# Altium footprint library Library.PcbLib: 5 footprints
Each footprint in its own frame and in the unit in brackets; x right, y up, seen from the top. Pads: shape width x height; smd on the part's side, far side on the other; paste and mask are expansions set on the pad; w line width, h text height; cw(c..) or ccw(c..) is an arc to the next point about the centre after c.
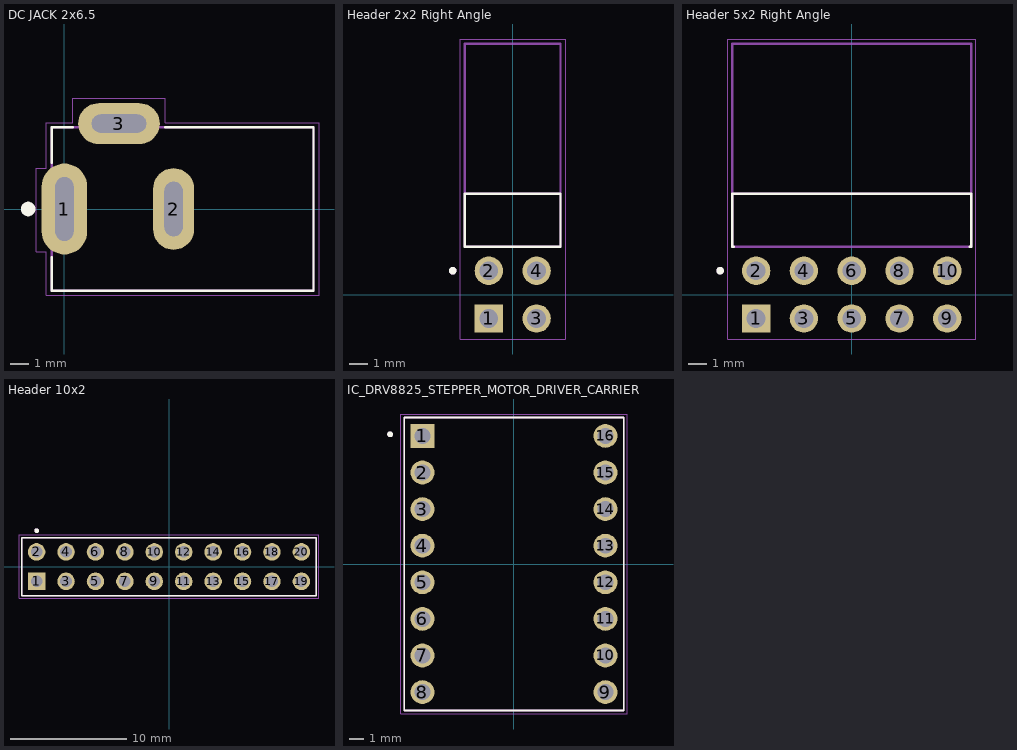
[diagram p0: the footprints below, top view; thin cyan lines are the x and y axes]

## DC JACK 2x6.5 [mm]
pads (3):
  oval 2.5x5 hole 1 slot 3.5 at 90 deg: 1(0,0)
  oval 2.25x4.5 hole 1 slot 3 at 90 deg: 2(6,0)
  oval 4.5x2.25 hole 1 slot 3 at 0 deg: 3(3,4.7)
Top Overlay:
  circle w0.4: c-2,0 r0.2
  lines w0.127: -0.7,-2.65 -0.7,-4.5 13.7,-4.5 13.7,4.5 5.55,4.5 ; -0.7,2.55 -0.7,4.5 0.45,4.5
3D Top:
  lines w0.127: -0.7,-4.5 -0.7,4.5 13.7,4.5 13.7,-4.5 -0.7,-4.5
Courtyard Top:
  lines w0.05: -1.55,-2.35 -1,-2.35 -1,-4.75 14,-4.75 14,4.75 5.55,4.75 5.55,6.1 0.45,6.1 0.45,4.75 -1,4.75 -1,2.25 -1.55,2.25 -1.55,-2.35
3D body: height 11.01, standoff -3.49, extent -0.723,-4.5 13.677,4.9

## Header 2x2 Right Angle [mm]
pads (4):
  rect 1.508x1.508 hole 1: 1(-1.27,-1.27)
  round 1.508 hole 1: 2(-1.27,1.27) 3(1.27,-1.27) 4(1.27,1.27)
Top Overlay:
  circle w0.2: c-3.19,1.27 r0.1
  lines w0.127: -2.47,2.54 -2.54,2.54 ; -2.54,2.54 2.54,2.54 2.54,5.37 -2.54,5.37 -2.54,2.54
3D Top:
  circle w0.2: c-3.19,1.27 r0.1
  lines w0.127: -2.54,2.54 -2.54,13.34 2.54,13.34 2.54,2.54 ; -2.54,2.54 2.54,2.54 ; -2.54,2.54 -2.54,5.37 2.54,5.37 2.54,2.54
Courtyard Top:
  lines w0.05: -2.79,-2.36 2.79,-2.36 2.79,13.59 -2.79,13.59 -2.79,-2.36
3D body: height 6.13, standoff -2.76, extent -2.54,-1.524 2.54,13.476

## Header 5x2 Right Angle [mm]
pads (10):
  rect 1.508x1.508 hole 1: 1(-5.08,-1.27)
  round 1.508 hole 1: 2(-5.08,1.27) 3(-2.54,-1.27) 4(-2.54,1.27) 5(0,-1.27) 6(0,1.27) 7(2.54,-1.27) 8(2.54,1.27) 9(5.08,-1.27) 10(5.08,1.27)
Top Overlay:
  circle w0.2: c-7,1.27 r0.1
  lines w0.127: -6.28,2.54 -6.35,2.54 -6.35,5.37 6.35,5.37 6.35,2.54 6.28,2.54
3D Top:
  circle w0.2: c-7,1.27 r0.1
  lines w0.127: -6.35,2.54 -6.35,13.34 6.35,13.34 6.35,2.54 ; -6.35,2.54 6.35,2.54 ; -6.35,2.54 -6.35,5.37 6.35,5.37 6.35,2.54
Courtyard Top:
  lines w0.05: -6.6,-2.36 6.6,-2.36 6.6,13.59 -6.6,13.59 -6.6,-2.36
3D body: height 5.01, standoff -3.74, extent -6.35,-1.585 6.35,12.07

## Header 10x2 [mm]
pads (20):
  rect 1.508x1.508 hole 1: 1(-11.43,-1.27)
  round 1.508 hole 1: 2(-11.43,1.27) 3(-8.89,-1.27) 4(-8.89,1.27) 5(-6.35,-1.27) 6(-6.35,1.27) 7(-3.81,-1.27) 9(-1.27,-1.27) 10(-1.27,1.27) 11(1.27,-1.27) 12(1.27,1.27) 13(3.81,-1.27) 14(3.81,1.27) 15(6.35,-1.27) 16(6.35,1.27) 17(8.89,-1.27) 18(8.89,1.27) 19(11.43,-1.27) 20(11.43,1.27)
  round 1.508 hole 1 paste+0: 8(-3.81,1.27)
Top Overlay:
  circle w0.2: c-11.43,3.1 r0.1
  lines w0.127: -12.7,-2.5 -12.7,2.5 12.7,2.5 12.7,-2.5 -12.7,-2.5
3D Top:
  circle w0.2: c-11.43,3.1 r0.1
  lines w0.127: -12.7,-2.5 -12.7,2.5 12.7,2.5 12.7,-2.5 -12.7,-2.5
Courtyard Top:
  lines w0.05: -12.95,-2.75 -12.95,2.75 12.95,2.75 12.95,-2.75 -12.95,-2.75
3D body: height 8.61, standoff -3.19, extent -12.7,-2.5 12.7,2.5

## IC_DRV8825_STEPPER_MOTOR_DRIVER_CARRIER [mm]
pads (16):
  rect 1.65x1.65 hole 1.1: 1(-6.35,8.89)
  round 1.65 hole 1.1: 2(-6.35,6.35) 3(-6.35,3.81) 4(-6.35,1.27) 5(-6.35,-1.27) 6(-6.35,-3.81) 7(-6.35,-6.35) 8(-6.35,-8.89) 9(6.35,-8.89) 10(6.35,-6.35) 11(6.35,-3.81) 12(6.35,-1.27) 13(6.35,1.27) 14(6.35,3.81) 15(6.35,6.35) 16(6.35,8.89)
Top Overlay:
  circle w0.2: c-8.6,9 r0.1
  lines w0.127: -7.62,-10.16 -7.62,10.16 7.62,10.16 7.62,-10.16 -7.62,-10.16
3D Top:
  circle w0.2: c-8.6,9 r0.1
  lines w0.127: -7.62,-10.16 7.62,-10.16 7.62,10.16 -7.62,10.16 -7.62,-10.16
Courtyard Top:
  lines w0.05: -7.87,-10.41 7.87,-10.41 7.87,10.41 -7.87,10.41 -7.87,-10.41
3D body: height 5.92, standoff -5.97, extent -7.62,-10.16 7.62,10.16